# Altium schematic symbol library ppdInt_schLib.SchLib: 1 symbol
Pins are listed as number, name and electrical type; pins without a type are passive.

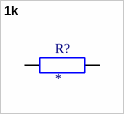
[diagram p0: symbol 1k]

## 1k
designator R?
footprint Resistencia
pins: 1, 2